# Altium integrated library WE-LAN_rev15a.intlib: 1 symbol
Pins are listed as number, name and electrical type; pins without a type are passive.

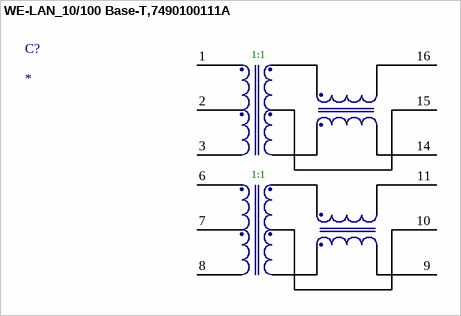
[diagram p0: symbol WE-LAN_10/100 Base-T,7490100111A]

## WE-LAN_10/100 Base-T,7490100111A
designator C?
10/100 Base-T SMD Transformer 1 Port WE-LAN,350μH OCL @ 8mA DC bias, IEEE802.3u/ ANSI X3.263, ETR; Manufacturer: Wurth Elektronik; partNo: 7490100111A; E-mail: libraries@we-online.com; ComponentLink1Description: Manufacturer; ComponentLink1URL: http://www.we-online.com; ComponentLink2Description: Datasheet; ComponentLink2URL: http://katalog.we-online.de/pbs/datasheet/7490100111A.pdf; Created by: Karrer Zheng; Created Date: 6/25/2015
footprint WE-LAN_7490100111A
pins: 1, 2, 3, 4 hidden, 5 hidden, 6, 7, 8, 9, 10, 11, 12 hidden, 13 hidden, 14, 15, 16
text: 1:1